# Altium footprint library QFN50P350X550X100_HS-25L.PcbLib: 1 footprints
Each footprint in its own frame and in the unit in brackets; x right, y up, seen from the top. Pads: shape width x height; smd on the part's side, far side on the other; paste and mask are expansions set on the pad; w line width, h text height; cw(c..) or ccw(c..) is an arc to the next point about the centre after c.
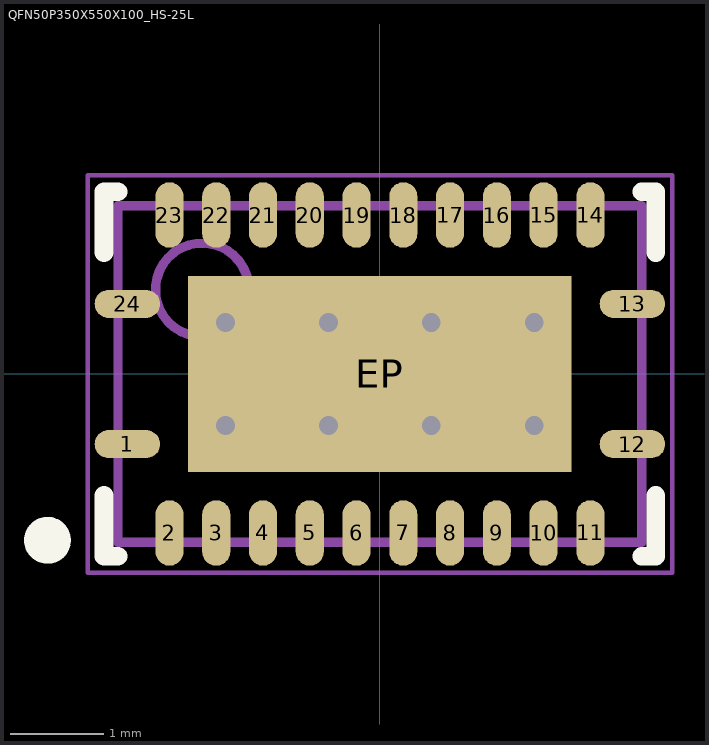
[diagram p0: the footprint, top view; thin cyan lines are the x and y axes]

## QFN50P350X550X100_HS-25L [mm] "QFN, 24-Leads, Body 3.50x5.50mm, Pitch 1.50mm/0.50mm, Thermal Pad 2.10x4.10mm, IPC High Density"
height 1
pads (25):
  oval 0.7x0.3 smd: 1(-2.7,-0.75) 12(2.7,-0.75) 13(2.7,0.75) 24(-2.7,0.75)
  oval 0.3x0.7 smd: 2(-2.25,-1.7) 3(-1.75,-1.7) 4(-1.25,-1.7) 5(-0.75,-1.7) 6(-0.25,-1.7) 7(0.25,-1.7) 8(0.75,-1.7) 9(1.25,-1.7) 10(1.75,-1.7) 11(2.25,-1.7) 14(2.25,1.7) 15(1.75,1.7) 16(1.25,1.7) 17(0.75,1.7) 18(0.25,1.7) 19(-0.25,1.7) 20(-0.75,1.7) 21(-1.25,1.7) 22(-1.75,1.7) 23(-2.25,1.7)
  rect 4.1x2.1 smd: EP(0,0)
via 1.65,-0.55 diameter 0.5 hole 0.2
via 0.55,-0.55 diameter 0.5 hole 0.2
via -0.55,-0.55 diameter 0.5 hole 0.2
via -1.65,-0.55 diameter 0.5 hole 0.2
via 1.65,0.55 diameter 0.5 hole 0.2
via 0.55,0.55 diameter 0.5 hole 0.2
via -0.55,0.55 diameter 0.5 hole 0.2
via -1.65,0.55 diameter 0.5 hole 0.2
Top Overlay:
  circle w0.25: c-3.554,-1.778 r0.125
  lines w0.2: -2.95,-1.3 -2.95,-1.95 -2.8,-1.95 ; -2.95,1.3 -2.95,1.95 -2.8,1.95 ; 2.8,-1.95 2.95,-1.95 2.95,-1.3 ; 2.8,1.95 2.95,1.95 2.95,1.3
Mechanical 13:
  circle w0.1: c-1.9,0.9 r0.5
  lines w0.1: -2.8,-1.8 2.8,-1.8 2.8,1.8 -2.8,1.8 -2.8,-1.8
Mechanical 15:
  lines w0.05: -3.125,-2.125 3.125,-2.125 3.125,2.125 -3.125,2.125 -3.125,-2.125
  lines w0.1: -0.5,0 0.5,0 ; 0,-0.5 0,0.5
3D body: height 1, standoff 0.02, extent -2.8,-1.8 2.8,1.8